# Altium footprint library charger_LT3652.PcbLib: 30 footprints (part 1 of 2)
Each footprint in its own frame and in the unit in brackets; x right, y up, seen from the top. Pads: shape width x height; smd on the part's side, far side on the other; paste and mask are expansions set on the pad; w line width, h text height; cw(c..) or ccw(c..) is an arc to the next point about the centre after c.
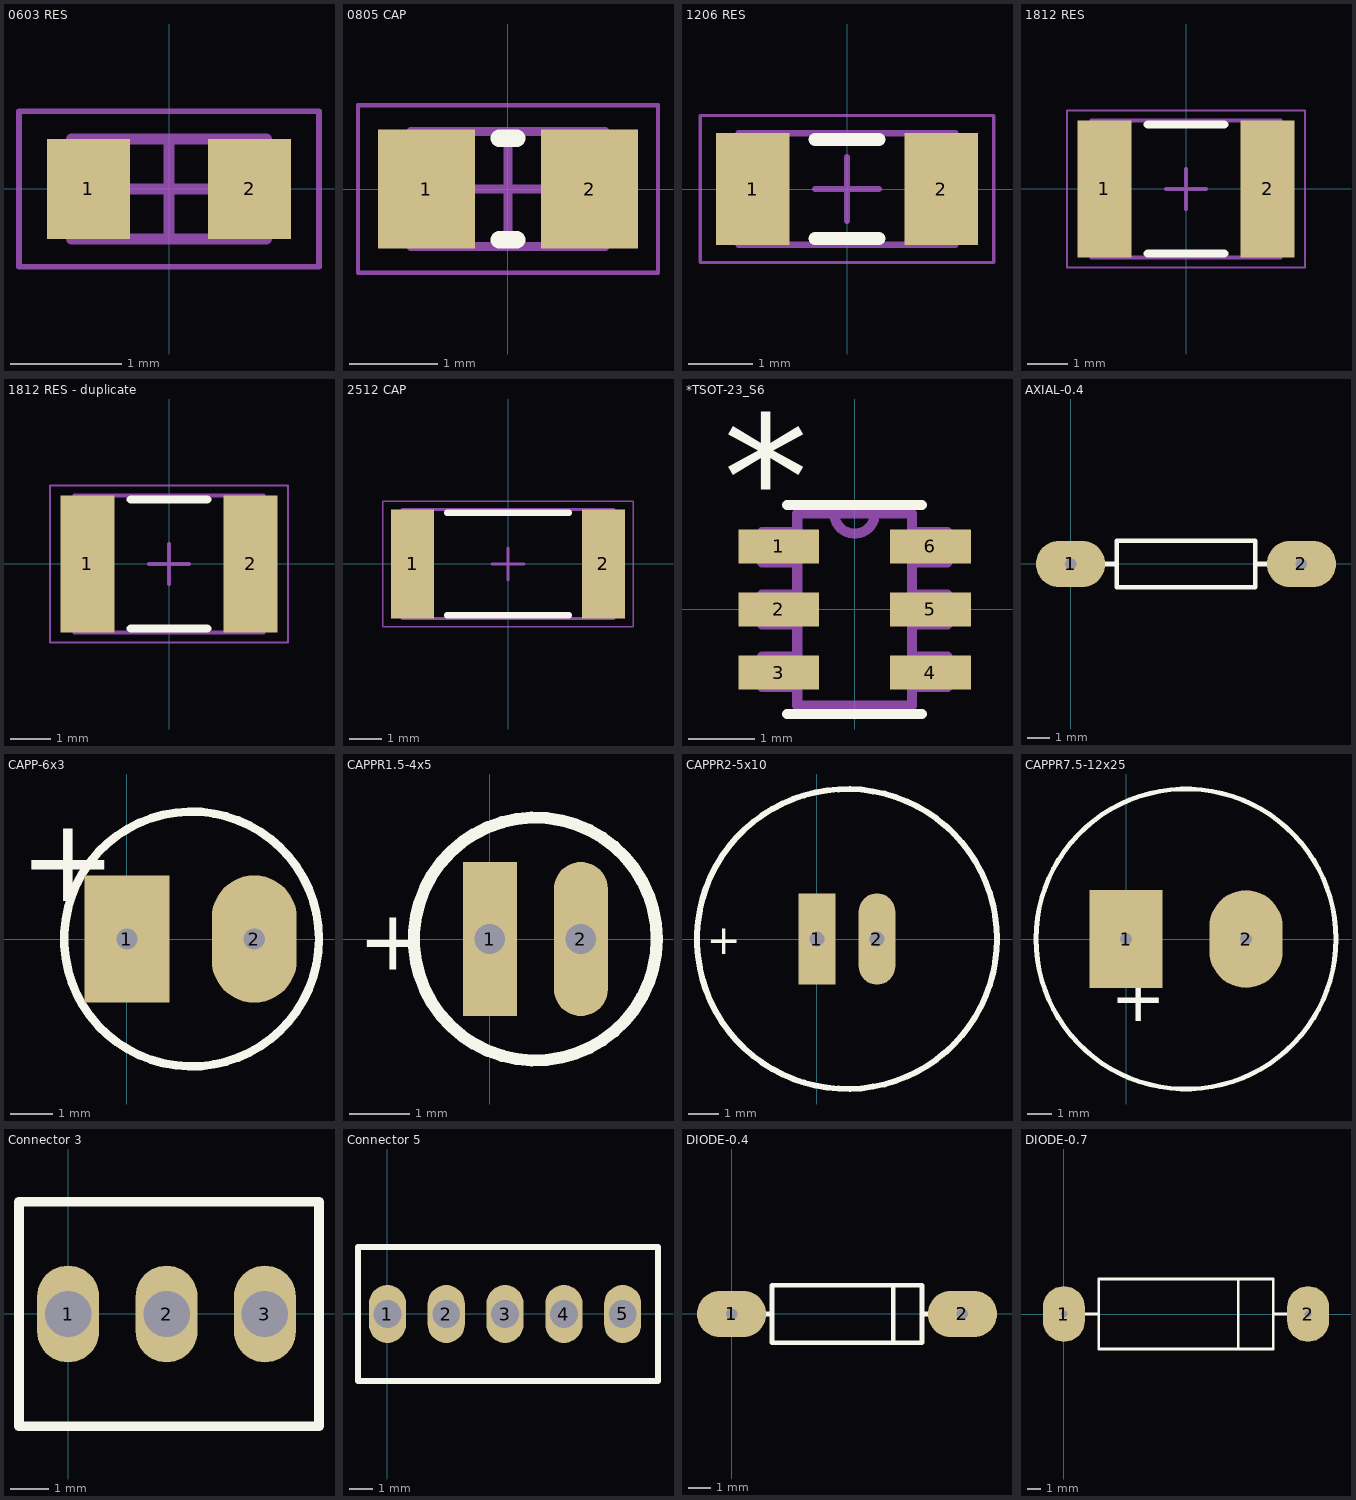
[diagram p0: the footprints below, top view; thin cyan lines are the x and y axes]

## 0603 RES [mm] "RES0603 medium"
height 0.4
pads (2):
  rect 0.75x0.9 smd: 1(-0.725,0) 2(0.725,0)
Mechanical 13:
  lines w0.1: -0.875,-0.45 0.875,-0.45 0.875,0.45 -0.875,0.45 -0.875,-0.45
Mechanical 15:
  lines w0.05: -1.35,-0.7 1.35,-0.7 1.35,0.7 -1.35,0.7 -1.35,-0.7
  lines w0.1: -0.45,0 0.45,0 ; 0,-0.45 0,0.45
3D body "0603.step": height 0.4, standoff 0, extent -0.875,-0.45 0.875,0.45

## 0805 CAP [mm] "0805 cap"
height 0.8
pads (2):
  rect 1.1x1.35 smd: 1(-0.925,0) 2(0.925,0)
Top Overlay:
  lines w0.2: -0.1,-0.575 0.1,-0.575 ; -0.1,0.575 0.1,0.575
Mechanical 13:
  lines w0.1: -1.1,-0.65 -1.1,0.65 1.1,0.65 1.1,-0.65 -1.1,-0.65
Mechanical 15:
  lines w0.05: -1.7,-0.95 -1.7,0.95 1.7,0.95 1.7,-0.95 -1.7,-0.95
  lines w0.1: -0.5,0 0.5,0 ; 0,-0.5 0,0.5
3D body "0805 CAP.step": height 0.8, standoff 0, extent -1.1,-0.65 1.1,0.65

## 1206 RES [mm] "RES1206 med"
height 0.55
pads (2):
  rect 1.15x1.75 smd: 1(-1.475,0) 2(1.475,0)
Top Overlay:
  lines w0.2: -0.5,-0.775 0.5,-0.775 ; -0.5,0.775 0.5,0.775
Mechanical 13:
  lines w0.1: -1.7,-0.875 1.7,-0.875 1.7,0.875 -1.7,0.875 -1.7,-0.875
Mechanical 15:
  lines w0.05: -2.3,-1.15 2.3,-1.15 2.3,1.15 -2.3,1.15 -2.3,-1.15
  lines w0.1: -0.5,0 0.5,0 ; 0,-0.5 0,0.5
3D body "1206.step": height 0.55, standoff 0, extent -1.7,-0.875 1.7,0.875

## 1812 RES [mm] "1812 RES med small values"
height 0.6
pads (2):
  rect 1.35x3.4 smd: 1(-2.025,0) 2(2.025,0)
Top Overlay:
  lines w0.2: -0.95,-1.6 0.95,-1.6 ; -0.95,1.6 0.95,1.6
Mechanical 13:
  lines w0.1: -2.35,-1.7 2.35,-1.7 2.35,1.7 -2.35,1.7 -2.35,-1.7
Mechanical 15:
  lines w0.05: -2.95,-1.95 2.95,-1.95 2.95,1.95 -2.95,1.95 -2.95,-1.95
  lines w0.1: -0.5,0 0.5,0 ; 0,-0.5 0,0.5
3D body: height 0.6, standoff 0, extent 1.75,-1.7 2.35,1.7
3D body: height 0.6, standoff 0, extent -2.35,-1.7 -1.75,1.7
3D body: height 0.6, standoff 0, extent -1.75,-1.7 1.75,1.7

## 1812 RES - duplicate [mm] "1812 RES med"
height 0.6
pads (2):
  rect 1.35x3.4 smd: 1(-2.025,0) 2(2.025,0)
Top Overlay:
  lines w0.2: -0.95,-1.6 0.95,-1.6 ; -0.95,1.6 0.95,1.6
Mechanical 13:
  lines w0.1: -2.35,-1.7 2.35,-1.7 2.35,1.7 -2.35,1.7 -2.35,-1.7
Mechanical 15:
  lines w0.05: -2.95,-1.95 2.95,-1.95 2.95,1.95 -2.95,1.95 -2.95,-1.95
  lines w0.1: -0.5,0 0.5,0 ; 0,-0.5 0,0.5
3D body: height 0.6, standoff 0, extent 1.75,-1.7 2.35,1.7
3D body: height 0.6, standoff 0, extent -2.35,-1.7 -1.75,1.7
3D body: height 0.6, standoff 0, extent -1.75,-1.7 1.75,1.7

## 2512 CAP [mm] "2512 CAP med"
height 3
pads (2):
  rect 1.35x3.4 smd: 1(-2.975,0) 2(2.975,0)
Top Overlay:
  lines w0.2: -1.9,-1.6 1.9,-1.6 ; -1.9,1.6 1.9,1.6
Mechanical 13:
  lines w0.1: -3.3,-1.7 -3.3,1.7 3.3,1.7 3.3,-1.7 -3.3,-1.7
Mechanical 15:
  lines w0.05: -3.9,-1.95 -3.9,1.95 3.9,1.95 3.9,-1.95 -3.9,-1.95
  lines w0.1: -0.5,0 0.5,0 ; 0,-0.5 0,0.5
3D body "2512 CAP.step": height 3, standoff 0, extent -3.3,-1.7 3.3,1.7

## *TSOT-23_S6 [mil]
pads (6):
  rect 48x20 smd: 1(-45,37.4) 2(-45,0) 3(-45,-37.4) 4(45,-37.4) 5(45,0) 6(45,37.4)
Top Overlay:
  lines w6: -40,-62 40,-62 ; -40,62 40,62
  text "*" at -78,42.16 h73.82
Mechanical 4:
  lines w6: -55,-46 -55,-28 ; -55,-46 -34,-46 ; -55,-46 -55,-28 ; -55,-46 -34,-46 ; -55,-28 -34,-28 ; -55,-28 -34,-28 ; -55,-9 -55,9 ; -55,-9 -34,-9 ; -55,-9 -55,9 ; -55,-9 -34,-9 ; -55,9 -34,9 ; -55,9 -34,9 ; -55,28 -55,46 ; -55,28 -34,28 ; -55,28 -55,46 ; -55,28 -34,28 ; -55,46 -34,46 ; -55,46 -34,46 ; -34,-57 34,-57 ; -34,-57 -34,57 ; -34,-57 34,-57 ; -34,-57 -34,57 ; -34,-46 -34,-28 ; -34,-46 -34,-28 ; -34,-9 -34,9 ; -34,-9 -34,9 ; -34,28 -34,46 ; -34,28 -34,46 ; -34,57 -12,57 ; -34,57 -12,57 ; -12,57 ccw(c0,57) 12,57 ; -12,57 ccw(c0,57) 12,57 ; -12,57 12,57 ; -12,57 12,57 ; 12,57 34,57 ; 12,57 34,57 ; 34,-57 34,57 ; 34,-57 34,57 ; 34,-46 34,-28 ; 34,-46 55,-46 ; 34,-46 34,-28 ; 34,-46 55,-46 ; 34,-28 55,-28 ; 34,-28 55,-28 ; 34,-9 34,9 ; 34,-9 55,-9 ; 34,-9 34,9 ; 34,-9 55,-9 ; 34,9 55,9 ; 34,9 55,9 ; 34,28 34,46 ; 34,28 55,28 ; 34,28 34,46 ; 34,28 55,28 ; 34,46 55,46 ; 34,46 55,46 ; 55,-46 55,-28 ; 55,-46 55,-28 ; 55,-9 55,9 ; 55,-9 55,9 ; 55,28 55,46 ; 55,28 55,46
  text "*" at -42,-5.84 h73.82
  text "*" at -42,-5.84 h73.82

## AXIAL-0.4 [mil] "Resistor; 2 Leads"
height 80
pads (2):
  oval 120x80 hole 19.68: 1(0,0) 2(400,0)
Top Overlay:
  lines w7.87: 40,0 80,0 ; 320,0 360,0 ; 80,-40 320,-40 320,40 80,40 80,-40

## CAPP-6x3 [mm] "Capacitor, Electrolytic, Radial; Body 12 x 25 mm (Dia.xH typ); Pin Spacing 5 mm (typ)"
height 10
pads (2):
  rect 2x3 hole 0.5 paste+0 mask+0: 1(0,0)
  oval 2x3 hole 0.5 paste+0 mask+0: 2(3,0)
Top Overlay:
  circle w0.2: c1.524,0 r3
  text "+" at -2.54,0.889 h2

## CAPPR1.5-4x5 [mm] "Capacitor, Electrolytic, Radial; Body 4 x 5 mm (Dia.xH typ); Pin Spacing 1.5 mm (typ)"
pads (2):
  rect 0.889x2.54 hole 0.5: 1(0,0)
  oval 0.889x2.54 hole 0.5: 2(1.5,0)
Top Overlay:
  circle w0.2: c0.75,0 r2
  text "+" at -2.171,-0.508 h1

## CAPPR2-5x10 [mil] "Capacitor, Electrolytic, Radial; Body 5 x 6.8 mm (Dia.xH typ); Pin Spacing 2 mm (typ)"
pads (2):
  rect 48x120 hole 19.68: 1(0,0)
  oval 48x120 hole 19.68: 2(78.74,0)
Top Overlay:
  circle w7.87: c39.37,0 r196.85
  text "+" at -145,-20 h39.37

## CAPPR7.5-12x25 [mil] "Capacitor, Electrolytic, Radial; Body 12 x 25 mm (Dia.xH typ); Pin Spacing 5 mm (typ)"
height 984.25
pads (2):
  rect 120x160 hole 19.68 paste+0 mask+0: 1(0,0)
  oval 120x160 hole 19.68 paste+0 mask+0: 2(196.85,0)
Top Overlay:
  circle w7.87: c98.43,0 r246.06
  text "+" at -25,-135 h78.74

## Connector 3 [mm]
pads (3):
  oval 1.6x2.5 hole 1.2: 1(0,0) 2(2.54,0) 3(5.08,0)
Top Overlay:
  lines w0.254: -1.27,2.9 -1.27,-2.9 6.477,-2.9 6.477,2.9 -1.228,2.9

## Connector 5 [mm]
pads (5):
  oval 1.6x2.5 hole 1.2: 1(0,0) 2(2.54,0) 3(5.08,0) 4(7.62,0) 5(10.16,0)
Top Overlay:
  lines w0.254: -1.27,2.9 -1.27,-2.9 11.684,-2.9 11.684,2.9 -1.228,2.9

## DIODE-0.4 [mil] "Tunnel Diode - Dependent Source Model; 2 Leads"
height 100
pads (2):
  oval 120x80 hole 19.68: 1(0,0) 2(400,0)
Top Overlay:
  lines w7.87: 40,0 70,0 ; 280,-50 280,50 ; 330,0 360,0 ; 70,-50 330,-50 330,50 70,50 70,-50

## DIODE-0.7 [mil] "Zener Diode; 2 Leads"
height 200
pads (2):
  oval 120x160 hole 19.68: 1(0,0) 2(700,0)
Top Overlay:
  lines w7.87: 60,0 100,0 ; 500,-100 500,100 ; 600,0 640,0 ; 100,-100 600,-100 600,100 100,100 100,-100